# Altium footprint library Footprints_Warga.PcbLib: 47 footprints (part 1 of 3)
Each footprint in its own frame and in the unit in brackets; x right, y up, seen from the top. Pads: shape width x height; smd on the part's side, far side on the other; paste and mask are expansions set on the pad; w line width, h text height; cw(c..) or ccw(c..) is an arc to the next point about the centre after c.
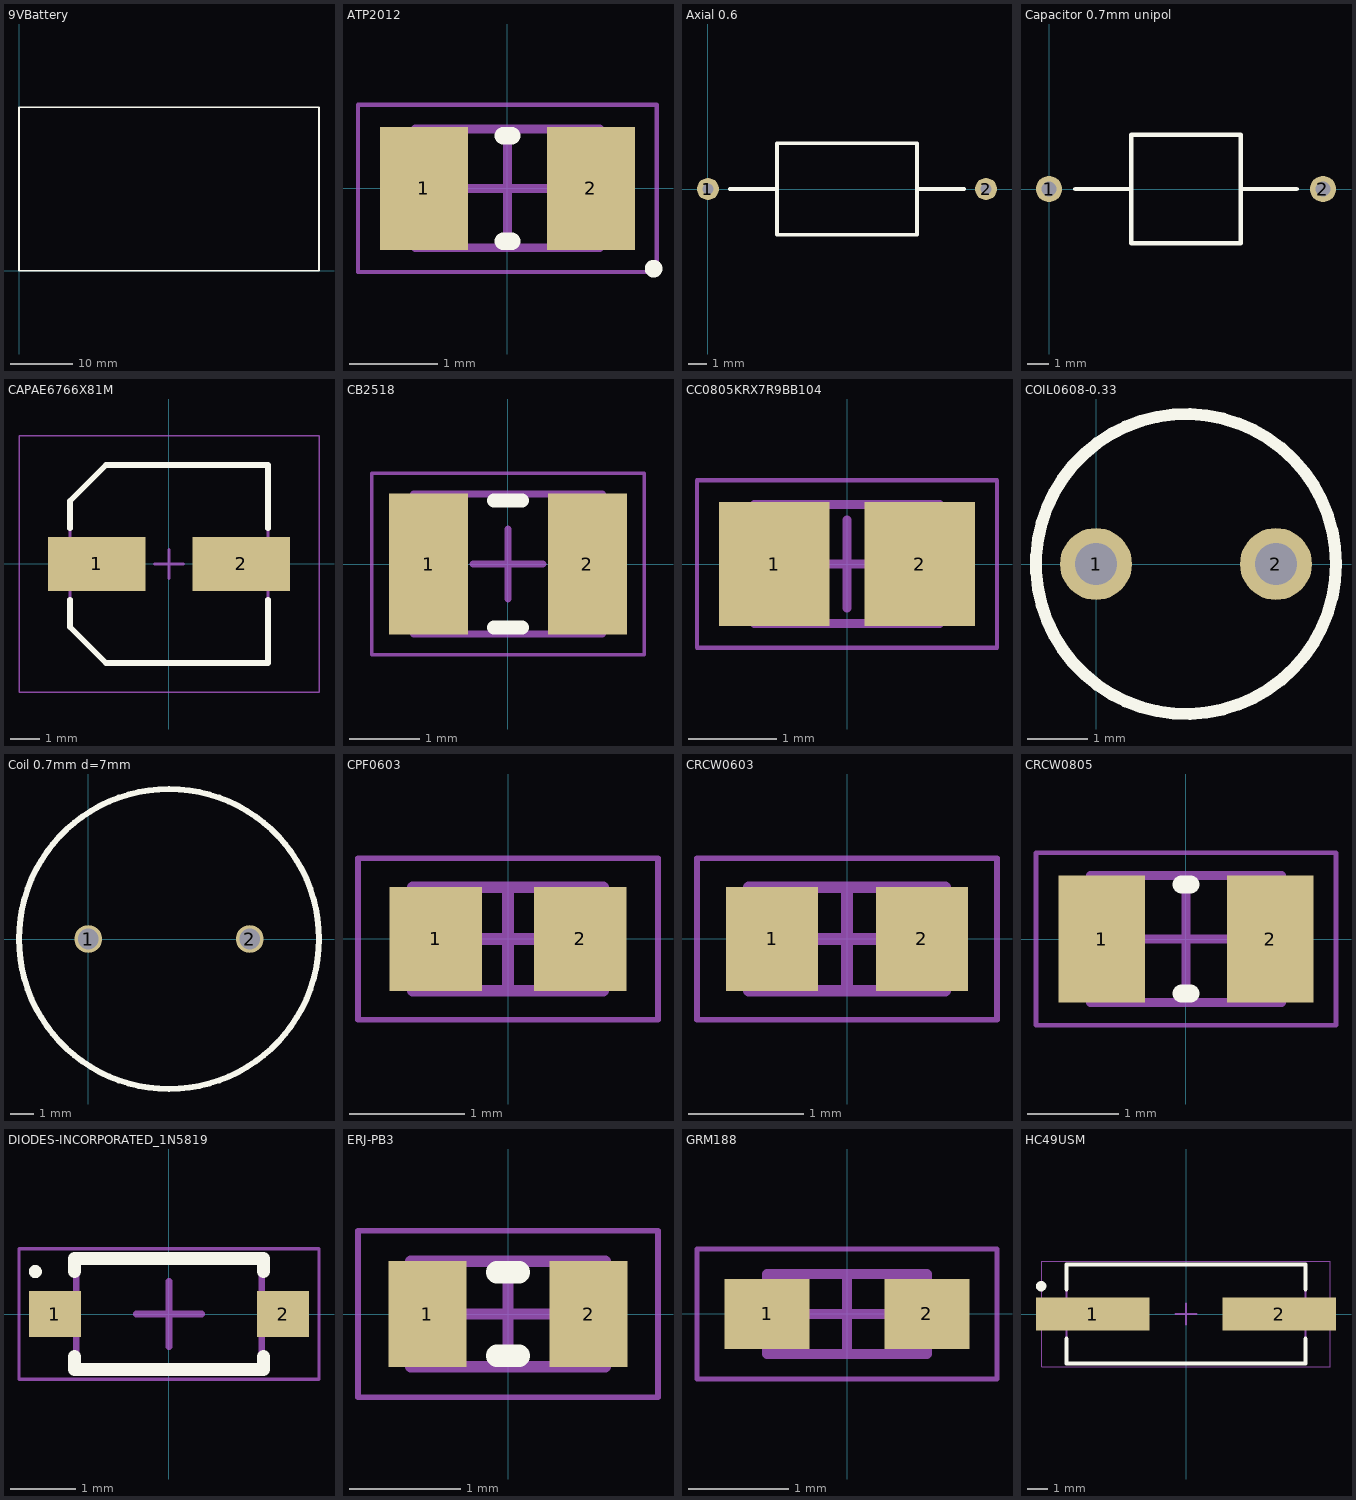
[diagram p0: the footprints below, top view; thin cyan lines are the x and y axes]

## 9VBattery [mm]
height 17.5
Top Overlay:
  lines w0.254: 0,0 0,26.5 48.5,26.5 48.5,0 0,0

## ATP2012 [mm] "Chip Diode, 2-Leads, Body 2,00x1,25mm, IPC Medium Density"
height 0.95
pads (2):
  rect 1x1.4 smd: 1(-0.95,0) 2(0.95,0)
Top Overlay:
  circle w0.1: c1.662,-0.912 r0.05
  lines w0.2: -0.05,-0.6 0.05,-0.6 ; -0.05,0.6 0.05,0.6
Mechanical 13:
  lines w0.1: -1.05,-0.675 1.05,-0.675 1.05,0.675 -1.05,0.675 -1.05,-0.675
Mechanical 15:
  lines w0.05: -1.7,-0.95 1.7,-0.95 1.7,0.95 -1.7,0.95 -1.7,-0.95
  lines w0.1: -0.5,0 0.5,0 ; 0,-0.5 0,0.5
3D body: height 0.95, standoff 0, extent 0.65,-0.675 1.05,0.675
3D body: height 0.95, standoff 0, extent -1.05,-0.675 -0.65,0.675
3D body: height 0.95, standoff 0, extent -0.65,-0.675 0.65,0.675

## Axial 0.6 [mm]
pads (2):
  round 1.2 hole 0.6: 1(0,0) 2(15.2,0)
Top Overlay:
  lines w0.2: 1.2,0 3.775,0 ; 11.425,0 14,0 ; 3.775,0 3.775,-2.5 11.425,-2.5 11.425,2.5 3.775,2.5 3.775,0

## Capacitor 0.7mm unipol [mm]
pads (2):
  round 1.2 hole 0.7: 1(0,0) 2(12.6,0)
Top Overlay:
  lines w0.2: 1.2,0 3.775,0 ; 8.825,0 11.4,0 ; 3.775,0 3.775,-2.5 8.825,-2.5 8.825,2.5 3.775,2.5 3.775,0

## CAPAE6766X81M [mm] "Aluminum Electrolytic Capacitor, Body 6,60x6,60x8,10mm, IPC Low Density"
height 8.1
pads (2):
  rect 3.35x1.85 smd: 1(-2.475,0) 2(2.475,0)
Top Overlay:
  lines w0.2: -3.4,-1.225 -3.4,-2.163 -2.163,-3.4 3.4,-3.4 3.4,-1.225 ; -3.4,1.225 -3.4,2.163 -2.163,3.4 3.4,3.4 3.4,1.225
Mechanical 13:
  lines w0.1: -3.4,-2.163 -3.4,2.163 -2.163,3.4 3.4,3.4 3.4,-3.4 -2.163,-3.4 -3.4,-2.163
Mechanical 15:
  lines w0.05: -5.15,-4.4 5.15,-4.4 5.15,4.4 -5.15,4.4 -5.15,-4.4
  lines w0.1: -0.5,0 0.5,0 ; 0,-0.5 0,0.5
3D body: height 8.1, standoff 0, extent -3.15,-3.15 3.15,3.144
3D body: height 2.7, standoff 0, extent -3.4,-3.4 3.4,3.4

## CB2518 [mm] "Chip Inductor, 2-Leads, Body 2,50x1,80mm, IPC Medium Density"
height 2
pads (2):
  rect 1.13x2.02 smd: 1(-1.135,0) 2(1.135,0)
Top Overlay:
  lines w0.2: -0.2,-0.91 0.2,-0.91 ; -0.2,0.91 0.2,0.91
Mechanical 13:
  lines w0.1: -1.35,-1 -1.35,1 1.35,1 1.35,-1 -1.35,-1
Mechanical 15:
  lines w0.05: -1.95,-1.3 -1.95,1.3 1.95,1.3 1.95,-1.3 -1.95,-1.3
  lines w0.1: -0.5,0 0.5,0 ; 0,-0.5 0,0.5
3D body: height 2, standoff 0, extent -0.85,-1 0.85,1
3D body: height 2, standoff 0, extent -1.35,-1 -0.85,1
3D body: height 2, standoff 0, extent 0.85,-1 1.35,1

## CC0805KRX7R9BB104 [mm] "Chip Capacitor, 2-Leads, Body 2,00x1,25mm, IPC Medium Density"
height 0.9
pads (2):
  rect 1.25x1.4 smd: 1(-0.825,0) 2(0.825,0)
Mechanical 13:
  lines w0.1: -1.05,-0.675 -1.05,0.675 1.05,0.675 1.05,-0.675 -1.05,-0.675
Mechanical 15:
  lines w0.05: -1.7,-0.95 -1.7,0.95 1.7,0.95 1.7,-0.95 -1.7,-0.95
  lines w0.1: -0.5,0 0.5,0 ; 0,-0.5 0,0.5
3D body: height 0.9, standoff 0, extent -0.55,-0.675 0.55,0.675
3D body: height 0.9, standoff 0, extent -1.05,-0.675 -0.55,0.675
3D body: height 0.9, standoff 0, extent 0.55,-0.675 1.05,0.675

## COIL0608-0.33 [mm]
pads (2):
  round 1.2 hole 0.7: 1(0,0) 2(3,0)
Top Overlay:
  circle w0.2: c1.5,0 r2.5

## Coil 0.7mm d=7mm [mm]
pads (2):
  round 1.2 hole 0.9: 1(0,0) 2(7,0)
Top Overlay:
  circle w0.254: c3.5,0 r6.5

## CPF0603 [mm] "Chip Resistor, 2-Leads, Body 1,55x0,80mm, IPC Medium Density"
height 0.55
pads (2):
  rect 0.8x0.9 smd: 1(-0.625,0) 2(0.625,0)
Mechanical 13:
  lines w0.1: -0.825,-0.45 0.825,-0.45 0.825,0.45 -0.825,0.45 -0.825,-0.45
Mechanical 15:
  lines w0.05: -1.3,-0.7 1.3,-0.7 1.3,0.7 -1.3,0.7 -1.3,-0.7
  lines w0.1: -0.45,0 0.45,0 ; 0,-0.45 0,0.45
3D body: height 0.55, standoff 0, extent 0.525,-0.45 0.825,0.45
3D body: height 0.55, standoff 0, extent -0.825,-0.45 -0.525,0.45
3D body: height 0.55, standoff 0, extent -0.525,-0.45 0.525,0.45

## CRCW0603 [mm] "Chip Resistor, 2-Leads, Body 1,60x0,80mm, IPC Medium Density"
height 0.55
pads (2):
  rect 0.8x0.9 smd: 1(-0.65,0) 2(0.65,0)
Mechanical 13:
  lines w0.1: -0.85,-0.45 0.85,-0.45 0.85,0.45 -0.85,0.45 -0.85,-0.45
Mechanical 15:
  lines w0.05: -1.3,-0.7 1.3,-0.7 1.3,0.7 -1.3,0.7 -1.3,-0.7
  lines w0.1: -0.45,0 0.45,0 ; 0,-0.45 0,0.45
3D body: height 0.55, standoff 0, extent 0.55,-0.45 0.85,0.45
3D body: height 0.55, standoff 0, extent -0.85,-0.45 -0.55,0.45
3D body: height 0.55, standoff 0, extent -0.55,-0.45 0.55,0.45

## CRCW0805 [mm] "Chip Resistor, 2-Leads, Body 2,00x1,25mm, IPC Medium Density"
height 0.6
pads (2):
  rect 0.95x1.4 smd: 1(-0.925,0) 2(0.925,0)
Top Overlay:
  lines w0.2: -0.05,-0.6 0.05,-0.6 ; -0.05,0.6 0.05,0.6
Mechanical 13:
  lines w0.1: -1.05,-0.7 -1.05,0.7 1.05,0.7 1.05,-0.7 -1.05,-0.7
Mechanical 15:
  lines w0.05: -1.65,-0.95 -1.65,0.95 1.65,0.95 1.65,-0.95 -1.65,-0.95
  lines w0.1: -0.5,0 0.5,0 ; 0,-0.5 0,0.5
3D body: height 0.6, standoff 0, extent -0.7,-0.7 0.7,0.7
3D body: height 0.6, standoff 0, extent -1.05,-0.7 -0.7,0.7
3D body: height 0.6, standoff 0, extent 0.7,-0.7 1.05,0.7

## DIODES-INCORPORATED_1N5819 [mm] "SODFL, 2-Leads, Body 1,55x3,70mm, IPC Medium Density"
height 1.35
pads (2):
  rect 0.8x0.7 smd: 1(-1.75,0) 2(1.75,0)
Top Overlay:
  circle w0.1: c-2.05,0.65 r0.05
  lines w0.2: -1.45,-0.65 -1.45,-0.85 1.45,-0.85 1.45,-0.65 ; -1.45,0.65 -1.45,0.85 1.45,0.85 1.45,0.65
Mechanical 13:
  lines w0.1: -1.425,-0.85 1.425,-0.85 1.425,0.85 -1.425,0.85 -1.425,-0.85
Mechanical 15:
  lines w0.05: -2.3,-1 2.3,-1 2.3,1 -2.3,1 -2.3,-1
  lines w0.1: -0.5,0 0.5,0 ; 0,-0.5 0,0.5
3D body: height 1.35, standoff 0, extent -1.425,-0.85 1.425,0.85

## ERJ-PB3 [mm] "Chip Resistor, 2-Leads, Body 1,60x0,85mm, IPC Medium Density"
height 0.55
pads (2):
  rect 0.7x0.95 smd: 1(-0.725,0) 2(0.725,0)
Top Overlay:
  lines w0.2: -0.1,-0.375 0.1,-0.375 ; -0.1,0.375 0.1,0.375
Mechanical 13:
  lines w0.1: -0.875,-0.475 0.875,-0.475 0.875,0.475 -0.875,0.475 -0.875,-0.475
Mechanical 15:
  lines w0.05: -1.35,-0.75 1.35,-0.75 1.35,0.75 -1.35,0.75 -1.35,-0.75
  lines w0.1: -0.475,0 0.475,0 ; 0,-0.475 0,0.475
3D body: height 0.55, standoff 0, extent 0.625,-0.475 0.875,0.475
3D body: height 0.55, standoff 0, extent -0.875,-0.475 -0.625,0.475
3D body: height 0.55, standoff 0, extent -0.625,-0.475 0.625,0.475

## GRM188 [mm] "Chip Capacitor, 2-Leads, Body 1,60x0,80mm, IPC Medium Density"
height 0.8
pads (2):
  rect 0.85x0.7 smd: 1(-0.8,0) 2(0.8,0)
Mechanical 13:
  lines w0.1: -0.8,-0.4 0.8,-0.4 0.8,0.4 -0.8,0.4 -0.8,-0.4
Mechanical 15:
  lines w0.05: -1.5,-0.65 1.5,-0.65 1.5,0.65 -1.5,0.65 -1.5,-0.65
  lines w0.1: -0.4,0 0.4,0 ; 0,-0.4 0,0.4
3D body: height 0.8, standoff 0, extent 0.5,-0.4 0.8,0.4
3D body: height 0.8, standoff 0, extent -0.8,-0.4 -0.5,0.4
3D body: height 0.8, standoff 0, extent -0.5,-0.4 0.5,0.4

## HC49USM [mm] "SODFL, 2-Leads, Body 4,73x12,75mm, IPC Medium Density"
height 4.5
pads (2):
  rect 5.5x1.6 smd: 1(-4.525,0) 2(4.525,0)
Top Overlay:
  circle w0.25: c-7.025,1.35 r0.125
  lines w0.2: -5.8,-1.2 -5.8,-2.4 5.8,-2.4 5.8,-1.2 ; -5.8,1.2 -5.8,2.4 5.8,2.4 5.8,1.2
Mechanical 13:
  lines w0.1: -5.8,-2.415 -5.8,2.415 5.8,2.415 5.8,-2.415 -5.8,-2.415
Mechanical 15:
  lines w0.05: -7,-2.55 -7,2.55 7,2.55 7,-2.55 -7,-2.55
  lines w0.1: -0.5,0 0.5,0 ; 0,-0.5 0,0.5
3D body: height 4.5, standoff 0, extent -5.8,-2.415 5.8,2.415